# Altium footprint library MOLEX_22-03-50351.PcbLib: 1 footprints
Each footprint in its own frame and in the unit in brackets; x right, y up, seen from the top. Pads: shape width x height; smd on the part's side, far side on the other; paste and mask are expansions set on the pad; w line width, h text height; cw(c..) or ccw(c..) is an arc to the next point about the centre after c.
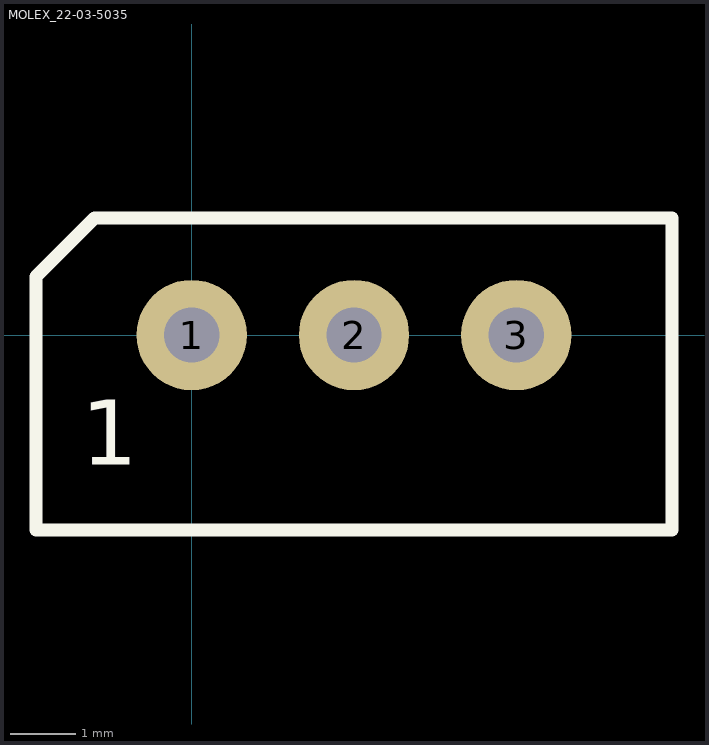
[diagram p0: the footprint, top view; thin cyan lines are the x and y axes]

## MOLEX_22-03-5035 [mm] "2.50mm Pitch, Wire-to-Board Header, Vertical, Shrouded, 3 Circuits, Tin (Sn) Plating"
pads (3):
  round 1.7 hole 0.85: 1(0,0) 2(2.5,0) 3(5,0)
Top Overlay:
  lines w0.2: -2.4,-3 -2.4,0.9 -1.5,1.8 7.4,1.8 7.4,-3 -2.4,-3
  text "1" at -1.7,-2 h1
Mechanical 15:
  lines w0.1: -2.4,-3 7.4,-3 7.4,1.8 -1.5,1.8 -2.4,0.9 -2.4,-3
3D body: height 5.85, standoff -3.55, extent -2.45,-3.07 7.45,1.83